# Altium footprint library vqfn_hr_15_p50_300x250x100_l40x25.PcbLib: 1 footprints
Each footprint in its own frame and in the unit in brackets; x right, y up, seen from the top. Pads: shape width x height; smd on the part's side, far side on the other; paste and mask are expansions set on the pad; w line width, h text height; cw(c..) or ccw(c..) is an arc to the next point about the centre after c.
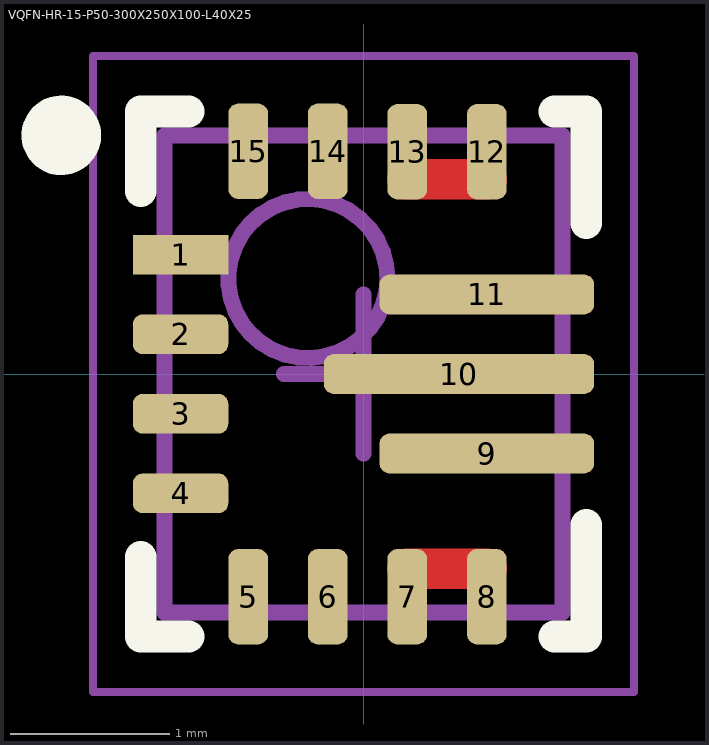
[diagram p0: the footprint, top view; thin cyan lines are the x and y axes]

## VQFN-HR-15-P50-300X250X100-L40X25 [mm] "VQFN-HR, 15-Leads, Body 3,00x2,50mm, Pitch 0,50mm, IPC Medium Density"
height 1
pads (15):
  rect 0.6x0.25 smd: 1(-1.15,0.75)
  rrect50% 0.6x0.25 smd: 2(-1.15,0.25) 3(-1.15,-0.25) 4(-1.15,-0.75)
  rrect50% 0.25x0.6 smd: 5(-0.725,-1.4) 6(-0.225,-1.4) 7(0.275,-1.4) 8(0.775,-1.4) 12(0.775,1.397) 13(0.275,1.397) 14(-0.225,1.4) 15(-0.725,1.4)
  rrect50% 1.35x0.25 smd: 9(0.775,-0.5) 11(0.775,0.5)
  rrect50% 1.7x0.25 smd: 10(0.6,0)
Top Layer:
  region: 1.905,1.524
  pour cut-out: 1.875,0.65
  lines w0.254: 0.275,-1.225 0.775,-1.225 ; 0.275,1.225 0.775,1.225
Top Overlay:
  circle w0.25: c-1.9,1.5 r0.125
  lines w0.2: -1.4,-1.15 -1.4,-1.65 -1.1,-1.65 ; -1.4,1.15 -1.4,1.65 -1.1,1.65 ; 1.2,-1.65 1.4,-1.65 1.4,-0.95 ; 1.2,1.65 1.4,1.65 1.4,0.95
Top Comment:
  text ".Comment" at 1,2.3 h1.2
Top Designator:
  text ".Designator" at -0.3,2.3 h1.2
Top Component Outline:
  circle w0.1: c-0.35,0.6 r0.5
  lines w0.1: -1.25,-1.5 1.25,-1.5 1.25,1.5 -1.25,1.5 -1.25,-1.5
Top Courtyard (Mech15):
  lines w0.05: -1.7,-2 1.7,-2 1.7,2 -1.7,2 -1.7,-2
  lines w0.1: -0.5,0 0.5,0 ; 0,-0.5 0,0.5
3D body "VQFN-HR-15.STEP": height 1, standoff 0, extent -1.25,-1.5 1.25,1.5